# EAGLE library part SWITCH,4PDT (library QuantumOptics)
Switch, 4PDT
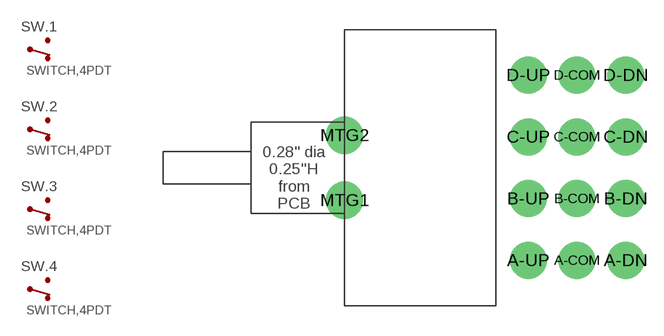
[diagram p173: symbol with the pads of SWITCH,C&K_7000_4PDT; footprint SWITCH,C&K_7000_4PDT]

Designator prefix SW; gates .1=SWITCH:SPDT .2=SWITCH:SPDT .3=SWITCH:SPDT .4=SWITCH:SPDT

## SWITCH,4PDT-C&K_7000  [SWITCH,C&K_7000_4PDT]
A-COM  .1:COM
A-DN  .1:NC\DOWN\LEFT
A-UP  .1:NO\UP\RIGHT
B-COM  .2:COM
B-DN  .2:NC\DOWN\LEFT
B-UP  .2:NO\UP\RIGHT
C-COM  .3:COM
C-DN  .3:NC\DOWN\LEFT
C-UP  .3:NO\UP\RIGHT
D-COM  .4:COM
D-DN  .4:NC\DOWN\LEFT
D-UP  .4:NO\UP\RIGHT

## Footprint SWITCH,C&K_7000_4PDT (pad centres in mm)
Switch, 4PDT, C&K 7000 Series, RA through-hole, such as 7401MD9AV2BE.
drill 1.93: A-COM 3.81,-7.239; A-DN 7.62,-7.239; A-UP 0,-7.239; B-COM 3.81,-2.413; B-DN 7.62,-2.413; B-UP 0,-2.413; C-COM 3.81,2.413; C-DN 7.62,2.413; C-UP 0,2.413; D-COM 3.81,7.239; D-DN 7.62,7.239; D-UP 0,7.239; MTG1 -14.351,-2.54; MTG2 -14.351,2.54